# Altium integrated library C1210C104K1RACTU.IntLib: 1 symbol
Pins are listed as number, name and electrical type; pins without a type are passive.

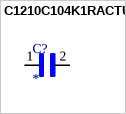
[diagram p0: symbol C1210C104K1RACTU]

## C1210C104K1RACTU
designator C?
0.1 ÂµF Â±10% 100V Ceramic Capacitor X7R 1210 (3225 Metric); MF: KEMET; MP: C1210C104K1RACTU; Value: *; Purchase-URL: https://pricing.snapeda.com/search/part/C1210C104K1RACTU/?ref=eda; Price: None; Check_prices: https://www.snapeda.com/parts/C1210C104K1RACTU/KEMET/view-part/?ref=eda; SnapEDA_Link: https://www.snapeda.com/parts/C1210C104K1RACTU/KEMET/view-part/?ref=snap; Availability: In Stock; Package: 1210 KEMET
footprint CAPC3225X105N
pins: 1, 2